# EAGLE library part PIC16F876A-X/SP (library lc-meter)
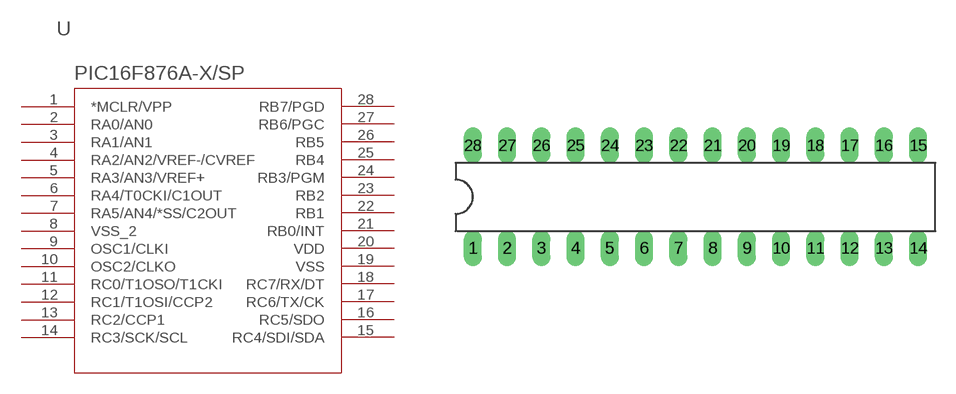
[diagram p0: symbol with the pads of DIL28-3; footprint DIL28-3]

Designator prefix -

## PIC16F876A-X/SP  [DIL28-3]
1  *MCLR/VPP  pas
2  RA0/AN0  pas
3  RA1/AN1  pas
4  RA2/AN2/VREF-/CVREF  pas
5  RA3/AN3/VREF+  pas
6  RA4/T0CKI/C1OUT  pas
7  RA5/AN4/*SS/C2OUT  pas
8  VSS_2  pas
9  OSC1/CLKI  pas
10  OSC2/CLKO  pas
11  RC0/T1OSO/T1CKI  pas
12  RC1/T1OSI/CCP2  pas
13  RC2/CCP1  pas
14  RC3/SCK/SCL  pas
15  RC4/SDI/SDA  pas
16  RC5/SDO  pas
17  RC6/TX/CK  pas
18  RC7/RX/DT  pas
19  VSS  pas
20  VDD  pas
21  RB0/INT  pas
22  RB1  pas
23  RB2  pas
24  RB3/PGM  pas
25  RB4  pas
26  RB5  pas
27  RB6/PGC  pas
28  RB7/PGD  pas

## Footprint DIL28-3 (pad centres in mm)
Dual In Line package type P
drill 0.813 long: 1 -16.51,-3.81; 2 -13.97,-3.81; 3 -11.43,-3.81; 4 -8.89,-3.81; 5 -6.35,-3.81; 6 -3.81,-3.81; 7 -1.27,-3.81; 8 1.27,-3.81; 9 3.81,-3.81; 10 6.35,-3.81; 11 8.89,-3.81; 12 11.43,-3.81; 13 13.97,-3.81; 14 16.51,-3.81; 15 16.51,3.81; 16 13.97,3.81; 17 11.43,3.81; 18 8.89,3.81; 19 6.35,3.81; 20 3.81,3.81; 21 1.27,3.81; 22 -1.27,3.81; 23 -3.81,3.81; 24 -6.35,3.81; 25 -8.89,3.81; 26 -11.43,3.81; 27 -13.97,3.81; 28 -16.51,3.81